# EAGLE library part KAJ04TGGT (library e-switch)
E-Switch Low Profile 4-Position DIP Switch w/Tape Seal From E-Switch document W825324, Rev A http://www.e-switch.com/
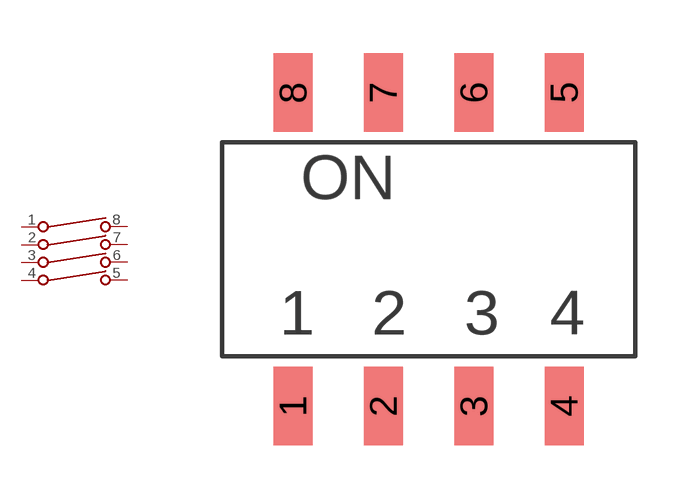
[diagram p0: symbol with the pads of 4SW; footprint 4SW]

Designator prefix SW; gates G$1=SW G$2=SW G$3=SW G$4=SW

## KAJ04TGGT  [4SW]
1  G$2:P$1  pas
2  G$1:P$1  pas
3  G$3:P$1  pas
4  G$4:P$1  pas
5  G$4:P$2  pas
6  G$3:P$2  pas
7  G$1:P$2  pas
8  G$2:P$2  pas

## Footprint 4SW (pad centres in mm)
smd 1.1 x 2.2: 1 -3.81,-4.4; 2 -1.27,-4.4; 3 1.27,-4.4; 4 3.81,-4.4; 5 3.81,4.4; 6 1.27,4.4; 7 -1.27,4.4; 8 -3.81,4.4